# Altium footprint library relay.PcbLib: 2 footprints
Each footprint in its own frame and in the unit in brackets; x right, y up, seen from the top. Pads: shape width x height; smd on the part's side, far side on the other; paste and mask are expansions set on the pad; w line width, h text height; cw(c..) or ccw(c..) is an arc to the next point about the centre after c.
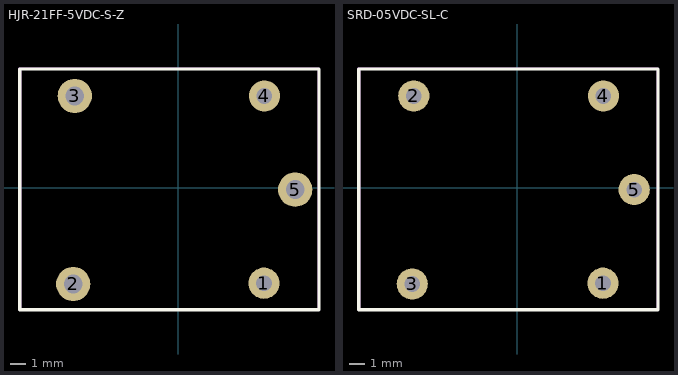
[diagram p0: the footprints below, top view; thin cyan lines are the x and y axes]

## HJR-21FF-5VDC-S-Z [mm]
pads (5):
  round 2 hole 1: 1(5.5,-6.125) 4(5.525,5.875)
  round 2.2 hole 1.2: 2(-6.725,-6.175) 3(-6.625,5.875) 5(7.5,-0.125)
Top Overlay:
  lines w0.2: -10.15,-7.825 -10.15,7.6 9.025,7.6 9.025,-7.825 -10.15,-7.825
Mechanical 1:
  lines w0.1: -10.2,-7.825 -10.2,7.65 9.025,7.65 9.025,-7.825 -10.2,-7.825
Mechanical 15:
  lines w0.1: -10.1,-7.825 8.975,-7.825 8.975,7.6 -10.1,7.6 -10.1,-7.825
3D body "User Library-RELE.STEP": height 15, standoff -3, extent -10.325,-8.05 9.175,7.85

## SRD-05VDC-SL-C [mm]
pads (5):
  round 2 hole 1: 1(5.5,-6.125) 2(-6.625,5.875) 3(-6.725,-6.175) 4(5.525,5.875) 5(7.5,-0.125)
Top Overlay:
  lines w0.2: -10.15,-7.825 -10.15,7.6 9.025,7.6 9.025,-7.825 -10.15,-7.825
Mechanical 1:
  lines w0.1: -10.2,-7.825 -10.2,7.65 9.025,7.65 9.025,-7.825 -10.2,-7.825
Mechanical 15:
  lines w0.1: -10.1,-7.825 8.975,-7.825 8.975,7.6 -10.1,7.6 -10.1,-7.825
3D body "User Library-SRD-05VDC-SL-C.STEP": height 16.4, standoff -4, extent -10.175,-7.875 8.925,7.625